# Altium schematic symbol library Jetson_Xavier_NX_Carrier_Board_v1.1.SCHLIB: 83 symbols
Pins are listed as number, name and electrical type; pins without a type are passive.

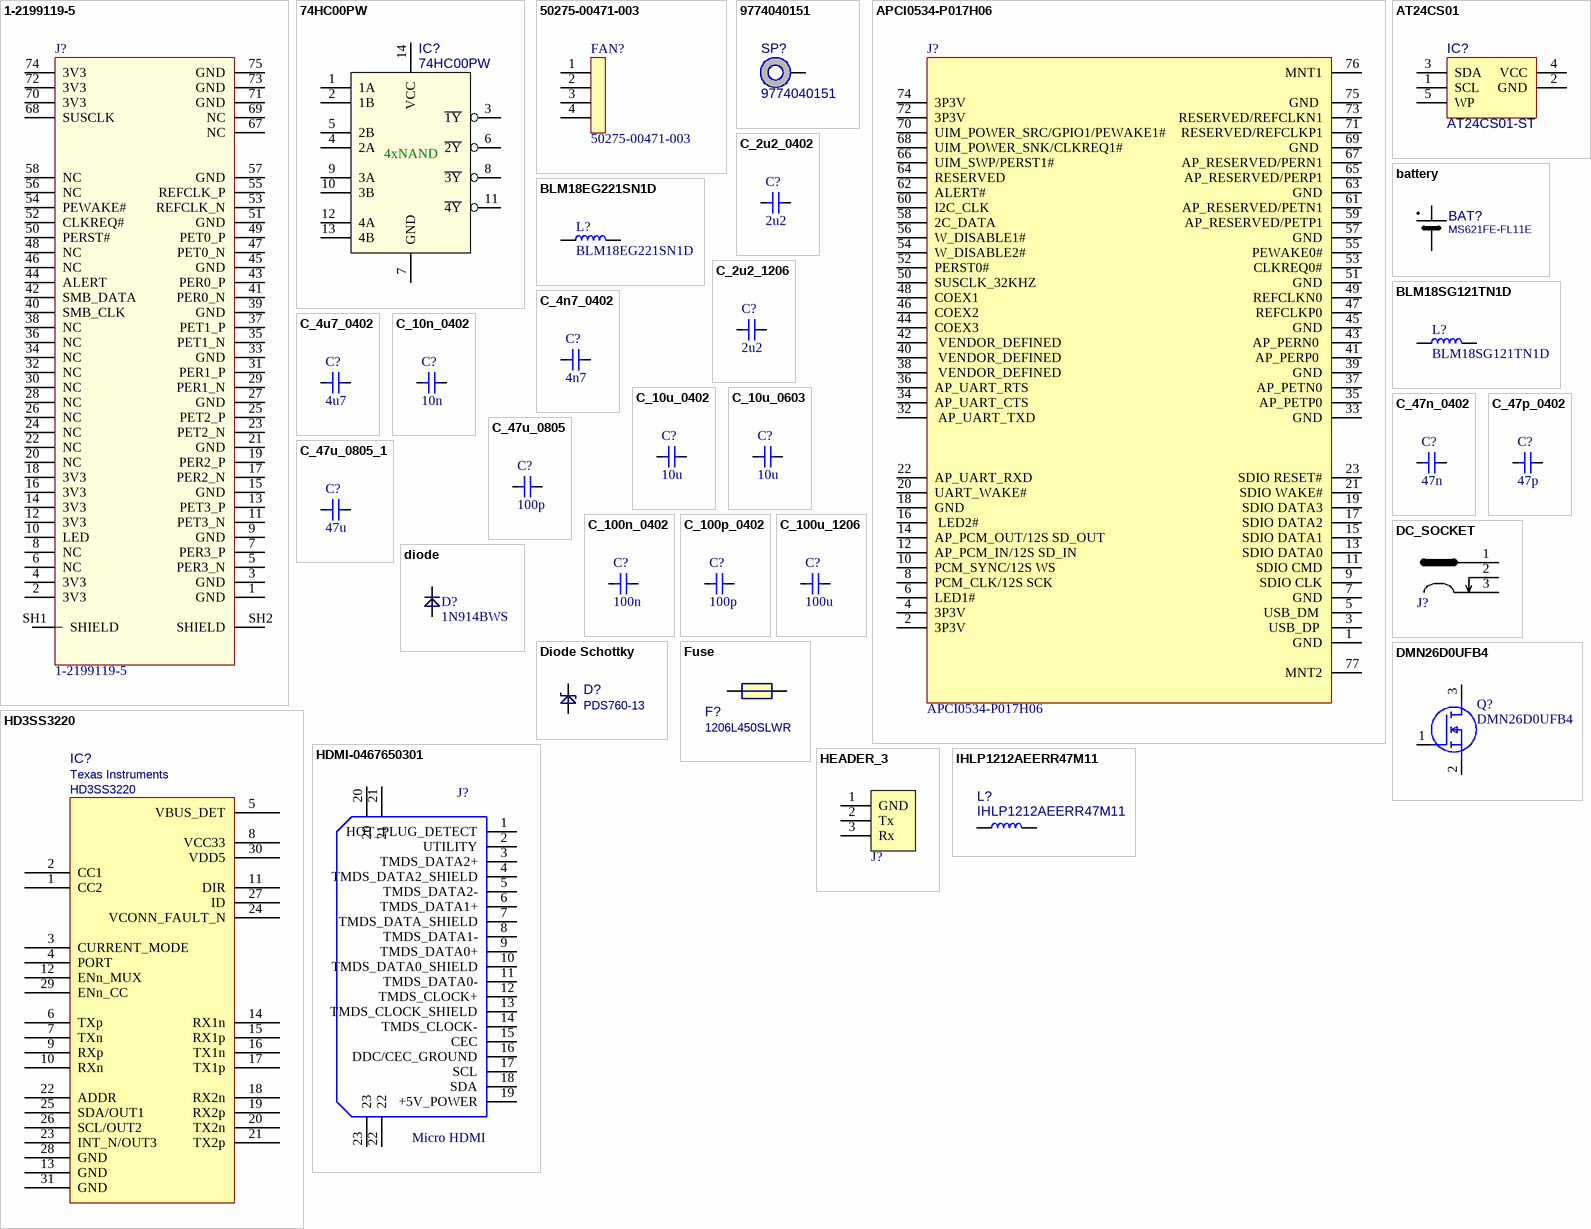
[diagram p0: symbols 1-2199119-5 to IHLP1212AEERR47M11]

## 1-2199119-5
designator J?
CONN FEMALE 67POS 0.020 GOLD; Manufacturer: TE; PartNumber: 1-2199119-5; Value: 1-2199119-5
footprint 1-2199119-5
pins: 1 GND, 2 3V3, 3 GND, 4 3V3, 5 PER3_N, 6 NC, 7 PER3_P, 8 NC, 9 GND, 10 LED, 11 PET3_N, 12 3V3, 13 PET3_P, 14 3V3, 15 GND, 16 3V3, 17 PER2_N, 18 3V3, 19 PER2_P, 20 NC, 21 GND, 22 NC, 23 PET2_N, 24 NC, 25 PET2_P, 26 NC, 27 GND, 28 NC, 29 PER1_N, 30 NC, 31 PER1_P, 32 NC, 33 GND, 34 NC, 35 PET1_N, 36 NC, 37 PET1_P, 38 NC, 39 GND, 40 SMB_CLK, 41 PER0_N, 42 SMB_DATA, 43 PER0_P, 44 ALERT, 45 GND, 46 NC, 47 PET0_N, 48 NC, 49 PET0_P, 50 PERST#, 51 GND, 52 CLKREQ#, 53 REFCLK_N, 54 PEWAKE#, 55 REFCLK_P, 56 NC, 57 GND, 58 NC, 67 NC, 68 SUSCLK, 69 NC, 70 3V3, 71 GND, 72 3V3, 73 GND, 74 3V3, 75 GND, SH1 SHIELD, SH2 SHIELD

## 74HC00PW
designator IC?
2 NAND Gate, 4 channel; Manufacturer: NEXPERIA; PartNumber: 74HC00PW; Value: 74HC00PW; PartSymbol: 74HC00PW
footprint TSSOP-14
pins: 1 1A, 2 1B, 3 ~{1Y}, 4 2A, 5 2B, 6 ~{2Y}, 7 GND, 8 ~{3Y}, 9 3A, 10 3B, 11 ~{4Y}, 12 4A, 13 4B, 14 VCC
text: 4xNAND

## 50275-00471-003
designator FAN?
footprint CON_MISC_004_TH_ST_M_P013_WTB
pins: 1, 2, 3, 4

## 9774040151
designator SP?
RND STANDOFF M2.5X0.45 STEEL 4MM; Manufacturer: WURTH ELEKTRONIK; PartNumber: 9774040151; Value: 9774040151; PartSymbol: 9774040151
footprint MEC_STANDOFF_PTH_620C380P
pins: 1

## APCI0534-P017H06
designator J?
part number: APCI0534-P017H06
footprint CON_MINIPEX_067_SMT_RA_M2_KEYE_C
pins: 1 GND, 2 3P3V, 3 USB_DP , 4 3P3V, 5 USB_DM , 6 LED1#, 7 GND, 8 PCM_CLK/12S SCK, 9  SDIO CLK, 10 PCM_SYNC/12S WS, 11 SDIO CMD, 12 AP_PCM_IN/12S SD_IN, 13 SDIO DATA0, 14 AP_PCM_OUT/12S SD_OUT, 15 SDIO DATA1, 16  LED2#, 17 SDIO DATA2, 18 GND , 19 SDIO DATA3, 20 UART_WAKE#, 21 SDIO WAKE#, 22 AP_UART_RXD, 23 SDIO RESET#, 32  AP_UART_TXD, 33 GND, 34 AP_UART_CTS, 35 AP_PETP0, 36 AP_UART_RTS, 37 AP_PETN0, 38  VENDOR_DEFINED, 39 GND, 40  VENDOR_DEFINED, 41 AP_PERP0 , 42  VENDOR_DEFINED, 43 AP_PERN0 , 44 COEX3, 45 GND, 46 COEX2, 47 REFCLKP0, 48 COEX1, 49 REFCLKN0, 50 SUSCLK_32KHZ, 51 GND, 52 PERST0#, 53 CLKREQ0#, 54 W_DISABLE2# , 55 PEWAKE0#, 56 W_DISABLE1#, 57 GND, 58 2C_DATA, 59 AP_RESERVED/PETP1, 60 I2C_CLK, 61 AP_RESERVED/PETN1, 62 ALERT#, 63 GND, 64 RESERVED, 65 AP_RESERVED/PERP1, 66 UIM_SWP/PERST1#, 67 AP_RESERVED/PERN1, 68 UIM_POWER_SNK/CLKREQ1#, 69 GND , 70 UIM_POWER_SRC/GPIO1/PEWAKE1#, 71 RESERVED/REFCLKP1, 72 3P3V, 73 RESERVED/REFCLKN1, 74 3P3V, 75 GND , 76 MNT1, 77 MNT2

## AT24CS01
designator IC?, comment AT24CS01-ST
Manufacturer: Atmel; PartNumber: AT24CS01-ST; PartSymbol: AT24CS01-ST; Value: AT24CS01-ST
footprint SOT23-5 (SOT23, 5-Leads, Body 2,90x2,70mm, Pitch 0,95mm, IPC Medium Density)
pins: 1 SCL, 2 GND, 3 SDA, 4 VCC, 5 WP

## battery
designator BAT?, comment MS621FE-FL11E
Rechargeable Battery, Coin Cell, Single Cell, 3 V, Lithium Manganese Dioxide, 5.5 mAh, Button Cell; Manufacturer: SEIKO INSTRUMENTS; PartNumber: MS621FE-FL11E; Value: MS621FE-FL11E; PartSymbol: MS621FE-FL11E; Class: Battery
footprint MS621FE-FL11E
pins: +, -

## BLM18EG221SN1D
designator L?
MURATA  BLM18EG221SN1D  FERRITE BEAD, 0.05OHM, 2A, 0603; PartNumber: BLM18EG221SN1D; Value: BLM18EG221SN1D; Manufacturer: MURATA; PartSymbol: BLM18EG221SN1D
footprint BEADC1608X65N
pins: 1, 2

## BLM18SG121TN1D
designator L?
FERRITE BEAD, 0.025OHM, 3A, 0603; Manufacturer: MURATA; PartNumber: BLM18SG121TN1D; Value: BLM18SG121TN1D; PartSymbol: BLM18SG121TN1D
footprint BEADC1608X65N
pins: 1, 2

## C_2u2_0402
designator C?, comment 2u2
MLCC SMT Capacitor 2.2uF 0402; PartNumber: C_2u2_0402; Manufacturer: TDK; PartSymbol: C1005X5R1A225K050BC; Value: 2u2
footprint C0402
pins: 1, 2
1 alternate drawing of the same symbol

## C_2u2_1206
designator C?, comment 2u2
MLCC SMT Capacitor 2.2uF 1206; PartNumber: C_2u2_1206; Manufacturer: KEMET; PartSymbol: C1206C225J5RACTU; Value: 2u2
footprint 1206
pins: 1, 2
1 alternate drawing of the same symbol

## C_4n7_0402
designator C?, comment 4n7
MLCC SMT Capacitor 4.7 nF 0402; PartNumber: C_4n7_0402; Manufacturer: TDK; PartSymbol: CGA2B3X7S2A472K050BB; Value: 4n7
footprint C0402
pins: 1, 2
1 alternate drawing of the same symbol

## C_4u7_0402
designator C?, comment 4u7
MLCC SMT Capacitor 4.7uF 0402; PartNumber: C_4u7_0402; Manufacturer: MURATA; PartSymbol: GRM155R60G475ME; Value: 4u7
footprint C0402
pins: 1, 2
1 alternate drawing of the same symbol

## C_10n_0402
designator C?, comment 10n
MLCC SMT Capacitor 10 nF 0402; PartNumber: C_10n_0402; Manufacturer: AVX; PartSymbol: 04025G103ZAT2A; Value: 10n
footprint C0402
pins: 1, 2
1 alternate drawing of the same symbol

## C_10u_0402
designator C?, comment 10u
MLCC SMT Capacitor 10uF 0402; PartNumber: C_10u_0402; Manufacturer: TDK; PartSymbol: C1005X5R0J106M050BC; Value: 10u
footprint C0402
pins: 1, 2
1 alternate drawing of the same symbol

## C_10u_0603
designator C?, comment 10u
MLCC SMT Capacitor 10uF 0603; PartNumber: C_10u_0603; Manufacturer: Walsin; PartSymbol: 0603X106M6R3CT; Value: 10u
footprint C0603 (Chip Inductor Ferrite Bead 0603)
pins: 1, 2
1 alternate drawing of the same symbol

## C_47n_0402
designator C?, comment 47n
MLCC SMT Capacitor 47nF 0402; PartNumber: C_47n_0402; Manufacturer: MULTICOMP; PartSymbol: MC0402X473K160CT; Value: 47n
footprint C0402
pins: 1, 2
1 alternate drawing of the same symbol

## C_47p_0402
designator C?, comment 47p
MLCC SMT Capacitor 47pF 0402; PartNumber: C_47p_0402; Manufacturer: KEMET; PartSymbol: C0402C470J5GACTU; Value: 47p
footprint C0402
pins: 1, 2
1 alternate drawing of the same symbol

## C_47u_0805
designator C?, comment 100p
MLCC SMT Capacitor 100pF 0805; PartNumber: C_100p_0805; PartSymbol: 08051A101JAT2A; Value: 100p
footprint 0805
pins: 1, 2
1 alternate drawing of the same symbol

## C_47u_0805_1
designator C?, comment 47u
MLCC SMT Capacitor 47uF 0805; PartNumber: C_47u_0805; Manufacturer: KEMET; PartSymbol: C0805C476M9PACTU; Value: 47u
footprint 0805
pins: 1, 2
1 alternate drawing of the same symbol

## C_100n_0402
designator C?, comment 100n
MLCC SMT Capacitor 100n 0402; PartNumber: C_100n_0402; Manufacturer: TDK; PartSymbol: C1005X5R0J104K050BA; Value: 100n
footprint C0402
pins: 1, 2
1 alternate drawing of the same symbol

## C_100p_0402
designator C?, comment 100p
MLCC SMT Capacitor 100p 0402; PartNumber: C_100p_0402; Manufacturer: AVX; PartSymbol: 04023A101JAT2A; Value: 100p
footprint C0402
pins: 1, 2
1 alternate drawing of the same symbol

## C_100u_1206
designator C?, comment 100u
MLCC SMT Capacitor 100uF 1206; PartNumber: C_100u_1206; Manufacturer: Taiyo Yuden; PartSymbol: JMK316BJ107ML-T; Value: 100u
footprint 1206
pins: 1, 2
1 alternate drawing of the same symbol

## DC_SOCKET
designator J?, comment DC-005-5A-2.5  (value not drawn)
DC Power Connector, Jack, 4 A, 1.95 mm, PCB Mount, Through Hole; Manufacturer: XKB Connectivity; PartNumber: DC-005-5A-2.5; PartSymbol: DC-005-5A-2.5; Value: DC-005-5A-2.5
footprint DC_SOCKET
pins: 1, 2, 3

## diode
designator D?, comment 1N914BWS
Diode small signal; Manufacturer: ON SEMICONDUCTOR; Value: 1N914BWS; PartNumber: 1N914BWS; PartSymbol: 1N914BWS
footprint SOD-323
pins: A, C

## Diode Schottky
designator D?, comment PDS760-13
DIODE SCHOTTKY 60V 7A POWERDI5; Manufacturer: DIODES INC.; PartNumber: PDS760-13; Value: PDS760-13; PartSymbol: PDS760-13
footprint PowerDI
pins: A, C

## DMN26D0UFB4
designator Q?
MOSFET (N-Channel); Manufacturer_Name: Diodes Inc.; Manufacturer_Part_Number: DMN26D0UFB4-7; Datasheet Link: https://componentsearchengine.com/Datasheets/1/DMN26D0UFB4-7.pdf; Height: 0.4mm; Arrow Part Number: DMN26D0UFB4-7; Arrow Price/Stock: https://www.arrow.com/en/products/dmn26d0ufb4-7/diodes-incorporated; Mouser Part Number: 621-DMN26D0UFB4-7; Mouser Price/Stock: https://www.mouser.co.uk/ProductDetail/Diodes-Incorporated/DMN26D0UFB4-7?qs=GWgl%252BsiMZr%252B4pznsTuF3iQ%3D%3D
footprint DMN26D0UFB47
pins: 1 G, 2 S, 3 D

## Fuse
designator F?, comment PartSymbol: 1206L450SLWR  (hidden comment: Value)
PTC RESET 6V LO RHO 1206 4.50A; PartNumber: LITTELFUSE_1206L450SLWR; Manufacturer: LITTELFUSE; Value: 1206L450SLWR
footprint Fuse-1206
pins: 1, 2

## HD3SS3220
designator IC?  Manufacturer: Texas Instruments
IC DRP PORT CTLR USB-C 30WQFN; PartSymbol: HD3SS3220RNHT; PartNumber: HD3SS3220; Value: HD3SS3220
footprint RNH0030A
pins: 1 CC2, 2 CC1, 3 CURRENT_MODE, 4 PORT, 5 VBUS_DET, 6 TXp, 7 TXn, 8 VCC33, 9 RXp, 10 RXn, 11 DIR, 12 ENn_MUX, 13 GND, 14 RX1n, 15 RX1p, 16 TX1n, 17 TX1p, 18 RX2n, 19 RX2p, 20 TX2n, 21 TX2p, 22 ADDR, 23 INT_N/OUT3, 24 VCONN_FAULT_N, 25 SDA/OUT1, 26 SCL/OUT2, 27 ID, 28 GND, 29 ENn_CC, 30 VDD5, 31 GND

## HDMI-0467650301
designator J?, comment Micro HDMI
footprint HDMI-0467650301
pins: 1 HOT_PLUG_DETECT, 2 UTILITY, 3 TMDS_DATA2+, 4 TMDS_DATA2_SHIELD, 5 TMDS_DATA2-, 6 TMDS_DATA1+, 7 TMDS_DATA_SHIELD, 8 TMDS_DATA1-, 9 TMDS_DATA0+, 10 TMDS_DATA0_SHIELD, 11 TMDS_DATA0-, 12 TMDS_CLOCK+, 13 TMDS_CLOCK_SHIELD, 14 TMDS_CLOCK-, 15 CEC, 16 DDC/CEC_GROUND, 17 SCL, 18 SDA, 19 +5V_POWER, 20, 21, 22, 23

## HEADER_3
designator J?  (value not drawn)
footprint 826936-3 (Connector; Header; 3 Position)
pins: 1 GND, 2 Tx, 3 Rx

## IHLP1212AEERR47M11
designator L?
FIXED IND 470NH 6.7A 15 MOHM SMD; Manufacturer: VISHAY; Class: Inductance; PartNumber: IHLP1212AEERR47M11; Value: IHLP1212AEERR47M11; PartSymbol: IHLP1212AEERR47M11; Inductance: 470nH; RatedCurrent: 6.7A
footprint IHLP-1212AE
pins: 1, 2

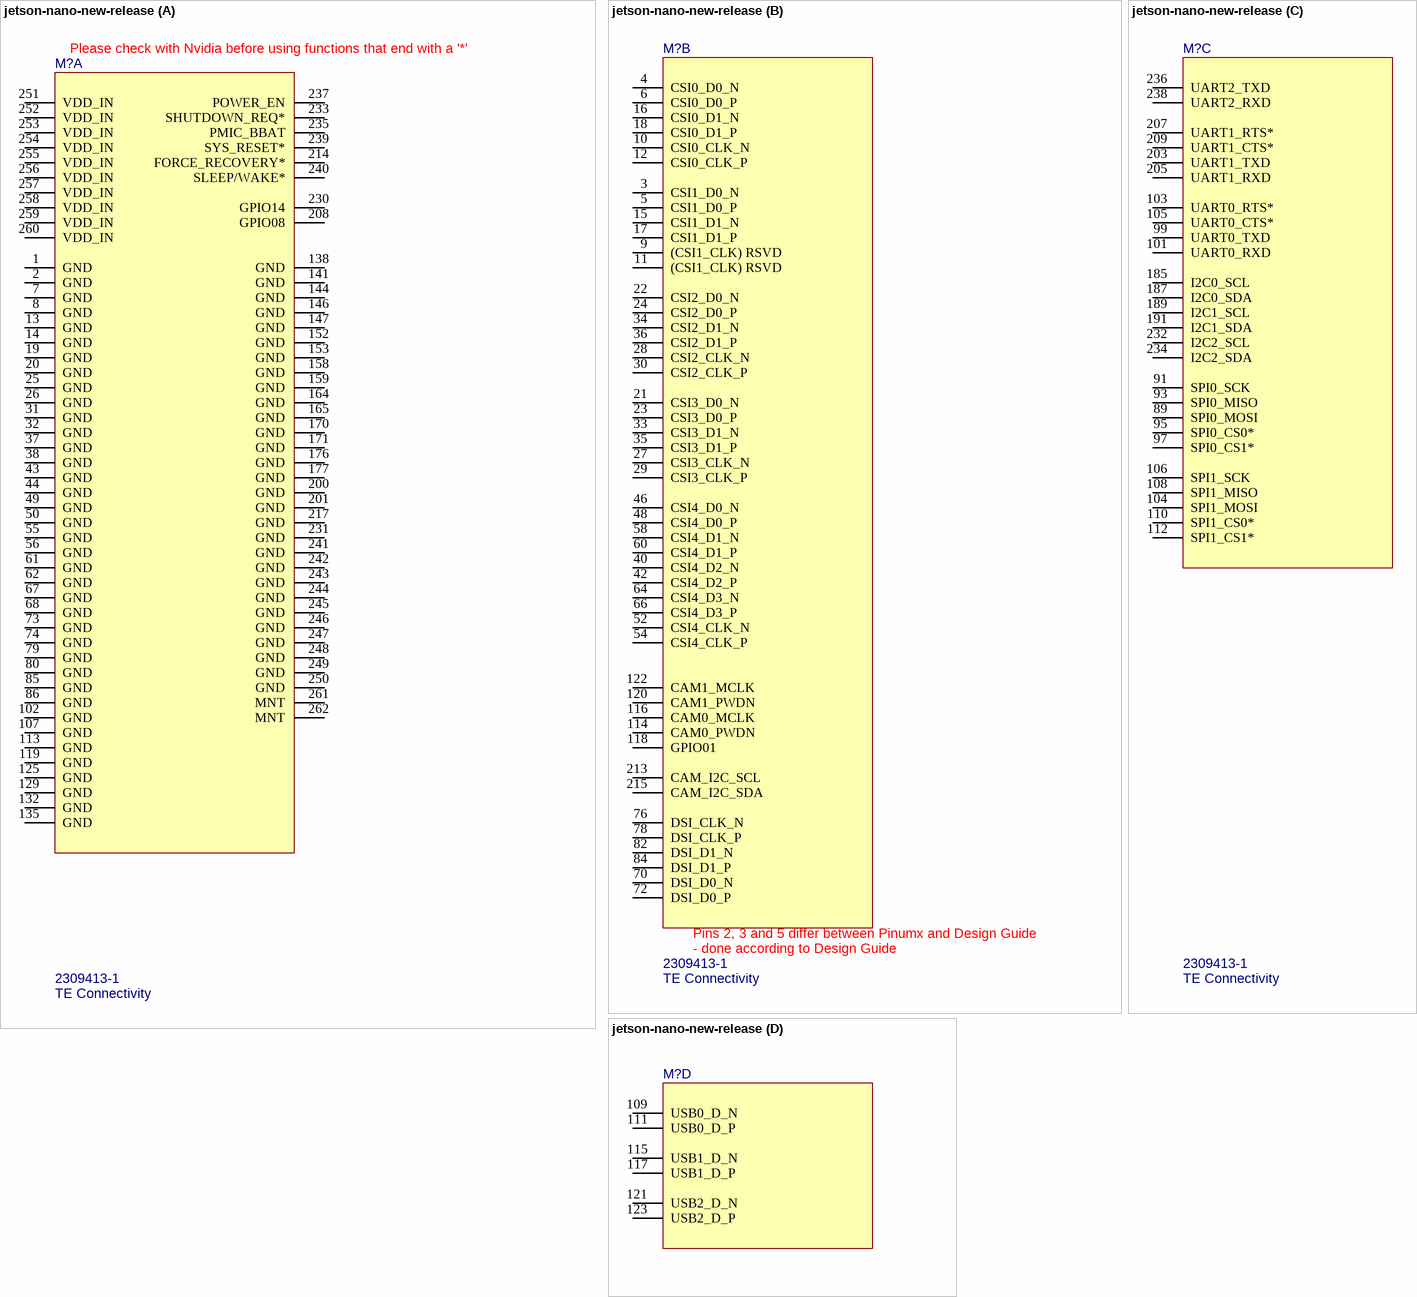
[diagram p1: symbol jetson-nano-new-release]

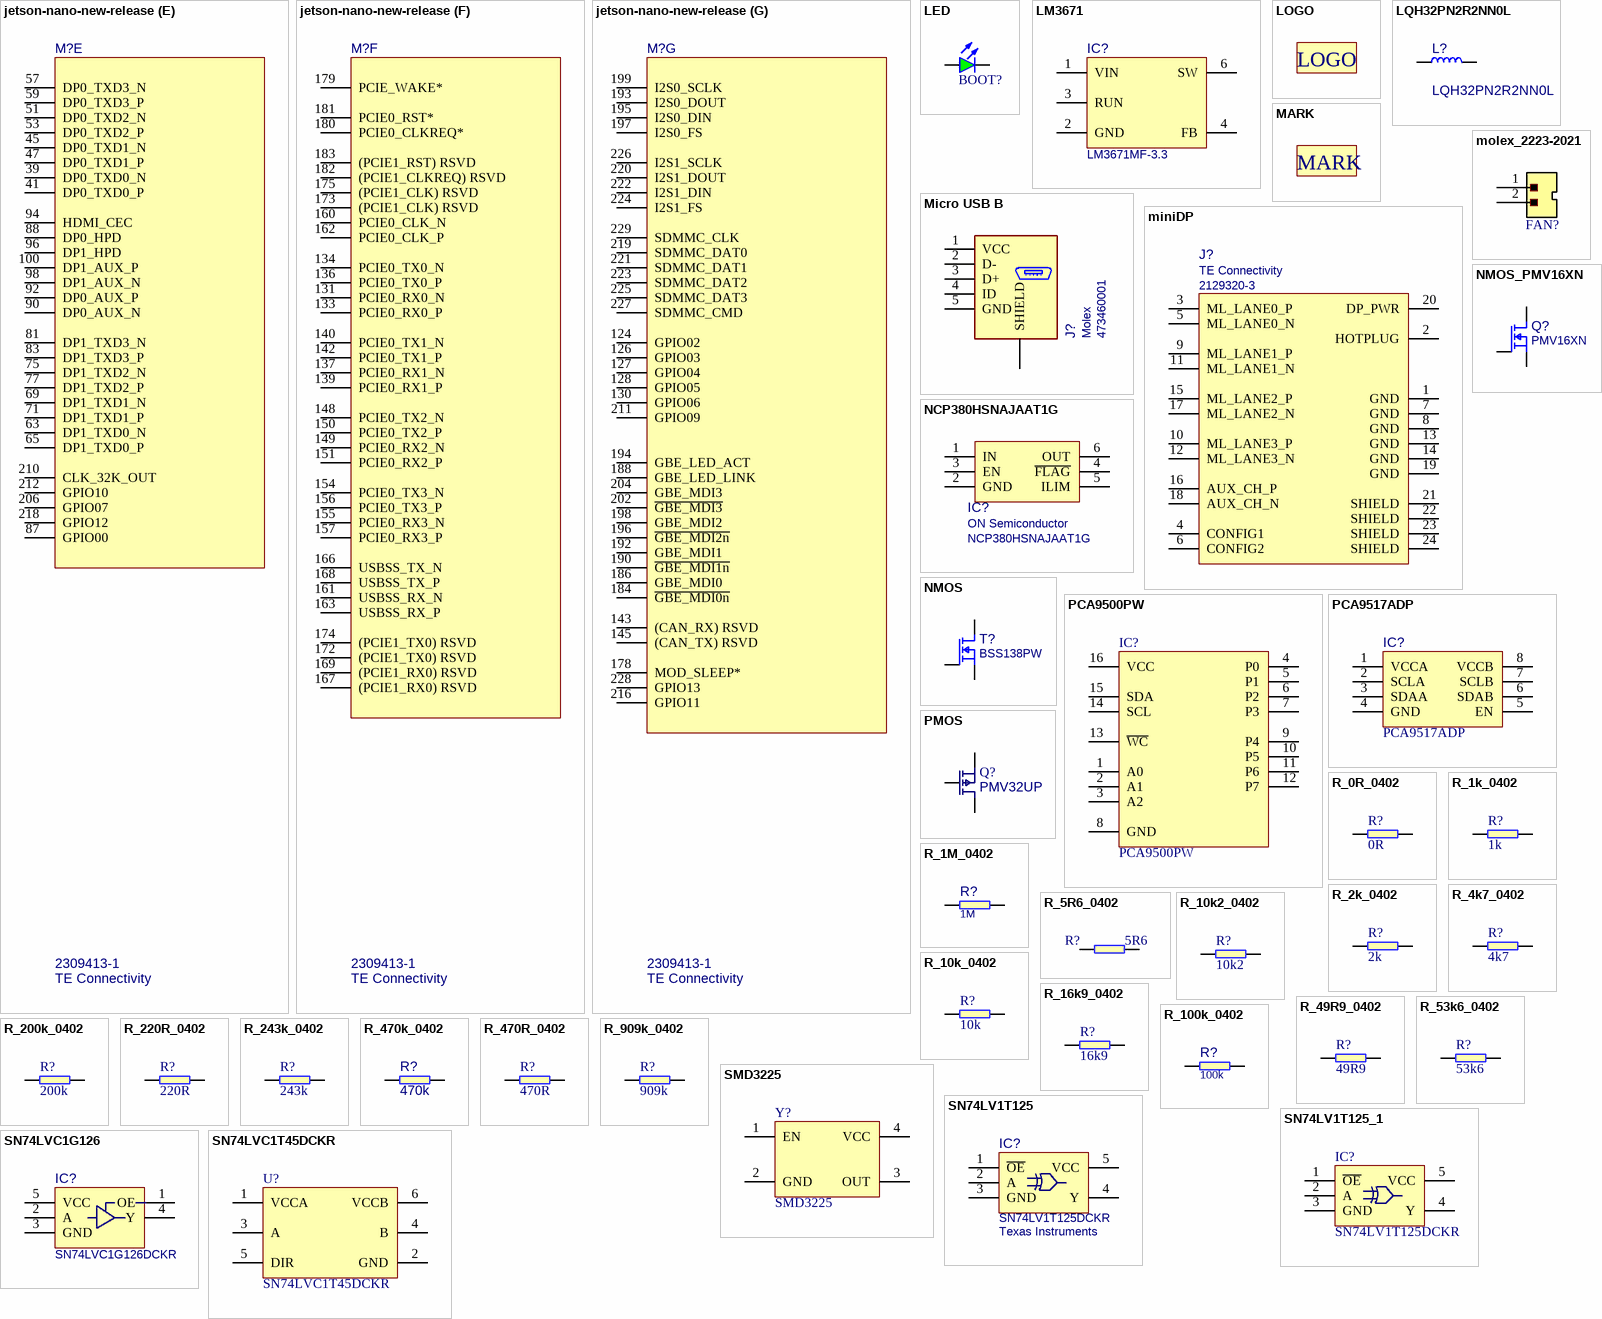
[diagram p2: symbols jetson-nano-new-release to SN74LVC1T45DCKR]

## jetson-nano-new-release
designator M?, comment Manufacturer: TE Connectivity  (hidden comment: 2309413-1)
PartNumber: 2309413-1; Value: 2309413-1; PartSymbol: 2309413-1
footprint jetson-nano-connector
part A pins: 1 GND, 2 GND, 7 GND, 8 GND, 13 GND, 14 GND, 19 GND, 20 GND, 25 GND, 26 GND, 31 GND, 32 GND, 37 GND, 38 GND, 43 GND, 44 GND, 49 GND, 50 GND, 55 GND, 56 GND, 61 GND, 62 GND, 67 GND, 68 GND, 73 GND, 74 GND, 79 GND, 80 GND, 85 GND, 86 GND, 102 GND, 107 GND, 113 GND, 119 GND, 125 GND, 129 GND, 132 GND, 135 GND, 138 GND, 141 GND, 144 GND, 146 GND, 147 GND, 152 GND, 153 GND, 158 GND, 159 GND, 164 GND, 165 GND, 170 GND, 171 GND, 176 GND, 177 GND, 200 GND, 201 GND, 208 GPIO08, 214 FORCE_RECOVERY*, 217 GND, 230 GPIO14, 231 GND, 233 SHUTDOWN_REQ*, 235 PMIC_BBAT, 237 POWER_EN, 239 SYS_RESET*, 240 SLEEP/WAKE*, 241 GND, 242 GND, 243 GND, 244 GND, 245 GND, 246 GND, 247 GND, 248 GND, 249 GND, 250 GND, 251 VDD_IN, 252 VDD_IN, 253 VDD_IN, 254 VDD_IN, 255 VDD_IN, 256 VDD_IN, 257 VDD_IN, 258 VDD_IN, 259 VDD_IN, 260 VDD_IN, 261 MNT, 262 MNT
part B pins: 3 CSI1_D0_N, 4 CSI0_D0_N, 5 CSI1_D0_P, 6 CSI0_D0_P, 9 (CSI1_CLK) RSVD, 10 CSI0_CLK_N, 11 (CSI1_CLK) RSVD, 12 CSI0_CLK_P, 15 CSI1_D1_N, 16 CSI0_D1_N, 17 CSI1_D1_P, 18 CSI0_D1_P, 21 CSI3_D0_N, 22 CSI2_D0_N, 23 CSI3_D0_P, 24 CSI2_D0_P, 27 CSI3_CLK_N, 28 CSI2_CLK_N, 29 CSI3_CLK_P, 30 CSI2_CLK_P, 33 CSI3_D1_N, 34 CSI2_D1_N, 35 CSI3_D1_P, 36 CSI2_D1_P, 40 CSI4_D2_N, 42 CSI4_D2_P, 46 CSI4_D0_N, 48 CSI4_D0_P, 52 CSI4_CLK_N, 54 CSI4_CLK_P, 58 CSI4_D1_N, 60 CSI4_D1_P, 64 CSI4_D3_N, 66 CSI4_D3_P, 70 DSI_D0_N, 72 DSI_D0_P, 76 DSI_CLK_N, 78 DSI_CLK_P, 82 DSI_D1_N, 84 DSI_D1_P, 114 CAM0_PWDN, 116 CAM0_MCLK, 118 GPIO01, 120 CAM1_PWDN, 122 CAM1_MCLK, 213 CAM_I2C_SCL, 215 CAM_I2C_SDA
part C pins: 89 SPI0_MOSI, 91 SPI0_SCK, 93 SPI0_MISO, 95 SPI0_CS0*, 97 SPI0_CS1*, 99 UART0_TXD, 101 UART0_RXD, 103 UART0_RTS*, 104 SPI1_MOSI, 105 UART0_CTS*, 106 SPI1_SCK, 108 SPI1_MISO, 110 SPI1_CS0*, 112 SPI1_CS1*, 185 I2C0_SCL, 187 I2C0_SDA, 189 I2C1_SCL, 191 I2C1_SDA, 203 UART1_TXD, 205 UART1_RXD, 207 UART1_RTS*, 209 UART1_CTS*, 232 I2C2_SCL, 234 I2C2_SDA, 236 UART2_TXD, 238 UART2_RXD
part D pins: 109 USB0_D_N, 111 USB0_D_P, 115 USB1_D_N, 117 USB1_D_P, 121 USB2_D_N, 123 USB2_D_P
part E pins: 39 DP0_TXD0_N, 41 DP0_TXD0_P, 45 DP0_TXD1_N, 47 DP0_TXD1_P, 51 DP0_TXD2_N, 53 DP0_TXD2_P, 57 DP0_TXD3_N, 59 DP0_TXD3_P, 63 DP1_TXD0_N, 65 DP1_TXD0_P, 69 DP1_TXD1_N, 71 DP1_TXD1_P, 75 DP1_TXD2_N, 77 DP1_TXD2_P, 81 DP1_TXD3_N, 83 DP1_TXD3_P, 87 GPIO00, 88 DP0_HPD, 90 DP0_AUX_N, 92 DP0_AUX_P, 94 HDMI_CEC, 96 DP1_HPD, 98 DP1_AUX_N, 100 DP1_AUX_P, 206 GPIO07, 210 CLK_32K_OUT, 212 GPIO10, 218 GPIO12
part F pins: 131 PCIE0_RX0_N, 133 PCIE0_RX0_P, 134 PCIE0_TX0_N, 136 PCIE0_TX0_P, 137 PCIE0_RX1_N, 139 PCIE0_RX1_P, 140 PCIE0_TX1_N, 142 PCIE0_TX1_P, 148 PCIE0_TX2_N, 149 PCIE0_RX2_N, 150 PCIE0_TX2_P, 151 PCIE0_RX2_P, 154 PCIE0_TX3_N, 155 PCIE0_RX3_N, 156 PCIE0_TX3_P, 157 PCIE0_RX3_P, 160 PCIE0_CLK_N, 161 USBSS_RX_N, 162 PCIE0_CLK_P, 163 USBSS_RX_P, 166 USBSS_TX_N, 167 (PCIE1_RX0) RSVD, 168 USBSS_TX_P, 169 (PCIE1_RX0) RSVD, 172 (PCIE1_TX0) RSVD, 173 (PCIE1_CLK) RSVD, 174 (PCIE1_TX0) RSVD, 175 (PCIE1_CLK) RSVD, 179 PCIE_WAKE*, 180 PCIE0_CLKREQ*, 181 PCIE0_RST*, 182 (PCIE1_CLKREQ) RSVD, 183 (PCIE1_RST) RSVD
part G pins: 124 GPIO02, 126 GPIO03, 127 GPIO04, 128 GPIO05, 130 GPIO06, 143 (CAN_RX) RSVD, 145 (CAN_TX) RSVD, 178 MOD_SLEEP*, 184 ~{GBE_MDI0n}, 186 GBE_MDI0, 188 GBE_LED_LINK, 190 ~{GBE_MDI1n}, 192 GBE_MDI1, 193 I2S0_DOUT, 194 GBE_LED_ACT, 195 I2S0_DIN, 196 ~{GBE_MDI2n}, 197 I2S0_FS, 198 GBE_MDI2, 199 I2S0_SCLK, 202 ~{GBE_MDI3}, 204 GBE_MDI3, 211 GPIO09, 216 GPIO11, 219 SDMMC_DAT0, 220 I2S1_DOUT, 221 SDMMC_DAT1, 222 I2S1_DIN, 223 SDMMC_DAT2, 224 I2S1_FS, 225 SDMMC_DAT3, 226 I2S1_SCLK, 227 SDMMC_CMD, 228 GPIO13, 229 SDMMC_CLK
part A text: Please check with Nvidia before using functions that end with a '*'
part B text: Pins 2, 3 and 5 differ between Pinumx and Design Guide; - done according to Design Guide

## LED
designator BOOT?, comment SML-310MTT86  (value not drawn)
LED Green 0603 case; PartNumber: LED_G; Manufacturer: ROHM Semicon; Value: SML-310MTT86; PartSymbol: SML-310MTT86
footprint LED0603
pins: A, K

## LM3671
designator IC?, comment LM3671MF-3.3
DC/DC Buck Converter; Manufacturer: TEXAS INSTRUMENTS; PartSymbol: LM3671MF-3.3/NOPB; Value: LM3671MF-3.3; PartNumber: LM3671MF-3.3
footprint SOT23-5N
pins: 1 VIN, 2 GND, 3 RUN, 4 FB, 6 SW

## LOGO
designator LOGO?  (value not drawn)
footprint LOGO_2

## LQH32PN2R2NN0L
designator L?
INDUCTOR, 2.2 ?H, ? 30%, 1212, 90 MHz, 0.073 ohm; Manufacturer: MURATA; Inductance: 2.2uH; PartNumber: LQH32PN2R2NN0L; Value: LQH32PN2R2NN0L; PartSymbol: LQH32PN2R2NN0L
footprint LQH32PN2R2NN0L
pins: 1, 2

## MARK
designator MARK?  (value not drawn)
footprint MARK

## Micro USB B
designator J?, comment Manufacturer: Molex  PartSymbol: 473460001  (hidden comment: Molex 47346-0001)
USB - micro B Receptacle Connector 5 Position Surface Mount, Right Angle, Horizontal; PartNumber: CON-Molex-47346-0001; Value: Molex 47346-0001
footprint CON-Molex-047346-0001
pins: 1 VCC (power), 2 D-, 3 D+, 4 ID, 5 GND (power), S SHIELD

## miniDP
designator J?, comment 2129320-3  Manufacturer: TE Connectivity
Mini Displayport Reverse Offset; PartNumber: 2129320-3; Value: 2129320-3; PartSymbol: 2129320-3
footprint 2129320-3
pins: 1 GND, 2 HOTPLUG, 3 ML_LANE0_P, 4 CONFIG1, 5 ML_LANE0_N, 6 CONFIG2, 7 GND, 8 GND, 9 ML_LANE1_P, 10 ML_LANE3_P, 11 ML_LANE1_N, 12 ML_LANE3_N, 13 GND, 14 GND, 15 ML_LANE2_P, 16 AUX_CH_P, 17 ML_LANE2_N, 18 AUX_CH_N, 19 GND, 20 DP_PWR, 21 SHIELD, 22 SHIELD, 23 SHIELD, 24 SHIELD

## molex_2223-2021
designator FAN?, comment MX-22-23-2021  (value not drawn)
Pinhead connector with key; Manufacturer: Molex; PartNumber: molex_2223-2021; PartSymbol: 022232021 A-6373-02A222; Value: MX-22-23-2021
footprint molex_2223-2021
pins: 1, 2

## NCP380HSNAJAAT1G
designator IC?  Manufacturer: ON Semiconductor
POWER LOAD SWITCH, HIGH SIDE; Value: NCP380HSNAJAAT1G; PartNumber: NCP380HSNAJAAT1G; PartSymbol: NCP380HSNAJAAT1G
footprint TSOP-6
pins: 1 IN, 2 GND, 3 EN, 4 ~{FLAG}, 5 ILIM, 6 OUT

## NMOS
designator T?, comment BSS138PW
MOSFET, N CH, 60V, 0.2A; Manufacturer: NXP; Value: BSS138PW; PartNumber: BSS138PW; PartSymbol: BSS138PW
footprint SOT-23 (SOT23, 3-Leads, Body 2.90x2.45mm, Pitch 0.95mm, IPC Medium Density)
footprint SC70-3
pins: 1 G, 2 S, 3 D

## NMOS_PMV16XN
designator Q?, comment PMV16XN
MOSFET, N CH; Manufacturer: NXP; Value: PMV16XN; PartNumber: PMV16XN; PartSymbol: PMV16XN
footprint SOT-23 (SOT23, 3-Leads, Body 2.90x2.45mm, Pitch 0.95mm, IPC Medium Density)
footprint SOT-23 (SOT23, 3-Leads, Body 2.90x2.45mm, Pitch 0.95mm, IPC Medium Density)
footprint SOT-23s (SOT23, 3-Leads, Body 2.90x2.45mm, Pitch 0.95mm, IPC Medium Density)
pins: 1 G, 2 S, 3 D

## PCA9500PW
designator IC?
Remote 8bit I2C SMBus I/O expander w/ 2kbit EEPROM memory; Manufacturer: NXP Semicondutors; PartNumber: PCA9500PW; Value: PCA9500PW; PartSymbol: PCA9500PW
footprint TSSOP-16
pins: 1 A0, 2 A1, 3 A2, 4 P0, 5 P1, 6 P2, 7 P3, 8 GND, 9 P4, 10 P5, 11 P6, 12 P7, 13 ~{WC}, 14 SCL, 15 SDA, 16 VCC

## PCA9517ADP
designator IC?
IC REDRIVER I2C 1CH 8TSSOP; Manufacturer: NXP; Value: PCA9517ADP; PartNumber: PCA9517ADP; PartSymbol: PCA9517ADP
footprint MSOP-8
pins: 1 VCCA, 2 SCLA, 3 SDAA, 4 GND, 5 EN, 6 SDAB, 7 SCLB, 8 VCCB

## PMOS
designator Q?, comment PMV32UP
P CH, 20V, 4A; Manufacturer: NXP; PartNumber: PMV32UP; Value: PMV32UP; PartSymbol: PMV32UP
footprint SOT-23 (SOT23, 3-Leads, Body 2.90x2.45mm, Pitch 0.95mm, IPC Medium Density)
footprint SOT-23s (SOT23, 3-Leads, Body 2.90x2.45mm, Pitch 0.95mm, IPC Medium Density)
pins: 1 G, 2 S, 3 D

## R_0R_0402
designator R?, comment 0R
RES, 0R, 0402; PartNumber: R_0R_0402; Manufacturer: Panasonic; PartSymbol: ERJ2GE0R00X; Value: 0R
footprint R0402
pins: 1, 2

## R_1k_0402
designator R?, comment 1k
RES, 1k, 0402; PartNumber: R_1k_0402; Manufacturer: BOURNS; PartSymbol: CR0402-FX-1001GLF; Value: 1k
footprint R0402
pins: 1, 2

## R_1M_0402
designator R?, comment 1M
SMT Resistor 1M 0402; PartNumber: R_1M_0402; Manufacturer: VISHAY; PartSymbol: CRCW04021M00FKED; Tolerance: 1%; Value: 1M
footprint R0402
pins: 1, 2

## R_2k_0402
designator R?, comment 2k
RES, 2k, 0402; PartNumber: R_2k_0402; Manufacturer: VISHAY; PartSymbol: CRCW04022K00FKED; Value: 2k
footprint R0402
pins: 1, 2

## R_4k7_0402
designator R?, comment 4k7
RES, 4k7, 0402; PartNumber: R_4k7_0402; Manufacturer: Panasonic; PartSymbol: ERJ2GEJ472X; Value: 4k7
footprint R0402
pins: 1, 2

## R_5R6_0402
designator R?, comment 5R6
RES, 5R6, 0402; PartNumber: R_5R6_0402; Manufacturer: Panasonic; PartSymbol: ERJ2GEJ5R6X; Value: 5R6
footprint R0402
pins: 1, 2

## R_10k2_0402
designator R?, comment 10k2
RES, 10k2, 0402, 0.1%; PartNumber: R_10k2_0402_0.1%; Manufacturer: TE CONECTIVITY; PartSymbol: CPF0402B10K2E1; Tolerance: 0.1%; Value: 10k2
footprint R0402
pins: 1, 2

## R_10k_0402
designator R?, comment 10k
RES, 10k, 0402; PartNumber: R_10k_0402; Manufacturer: MULTICOMP; PartSymbol: MCMR04X1002FTL; Value: 10k
footprint R0402
pins: 1, 2

## R_16k9_0402
designator R?, comment 16k9
RES, 16k9, 0402; PartNumber: R_16k9_0402; Manufacturer: Panasonic; PartSymbol: ERA2AEB1692X; Value: 16k9
footprint R0402
pins: 1, 2

## R_49R9_0402
designator R?, comment 49R9
RES, 49R9, 0402; PartNumber: R_49R9_0402; Manufacturer: VISHAY; PartSymbol: CRCW040249R9FKED; Value: 49R9
footprint R0402
pins: 1, 2

## R_53k6_0402
designator R?, comment 53k6
RES, 53k6, 0402; PartNumber: R_53k6_0402; Manufacturer: TE CONECTIVITY; PartSymbol: CPF0402B53K6E1; Value: 53k6
footprint R0402
pins: 1, 2

## R_100k_0402
designator R?, comment 100k
SMT Resistor 100k 0402; PartNumber: R_100k_0402; Manufacturer: VISHAY; PartSymbol: CRCW0402100KFKEDHP; Tolerance: 1%; Value: 100k
footprint R0402
pins: 1, 2

## R_200k_0402
designator R?, comment 200k
RES, 200k, 0402; PartNumber: R_200k_0402; Manufacturer: YAGEO; PartSymbol: RC0402FR-07200KL; Value: 200k
footprint R0402
pins: 1, 2

## R_220R_0402
designator R?, comment 220R
RES, 220R, 0402; PartNumber: R_220R_0402; Manufacturer: TE CONECTIVITY; PartSymbol: CRG0402J220R; Value: 220R
footprint R0402
pins: 1, 2

## R_243k_0402
designator R?, comment 243k
RES, 243k, 0402; PartNumber: R_243k_0402; Manufacturer: MULTICOMP; PartSymbol: MCMR04X2433FTL; Value: 243k
footprint R0402
pins: 1, 2

## R_470k_0402
designator R?, comment 470k
SMT Resistor 470k 0402; PartNumber: R_470k_0402; Manufacturer: VISHAY; PartSymbol: CRCW0402470KFKED; Value: 470k
footprint R0402
pins: 1, 2

## R_470R_0402
designator R?, comment 470R
RES, 470R, 0402; PartNumber: R_470R_0402; Manufacturer: VISHAY; PartSymbol: CRCW0402470RFKED.; Value: 470R
footprint R0402
pins: 1, 2

## R_909k_0402
designator R?, comment 909k
RES, 909k, 0402; PartNumber: R_909k_0402; Manufacturer: Panasonic; PartSymbol: ERJ2RKF9093X; Value: 909k
footprint R0402
pins: 1, 2

## SMD3225
designator Y?
footprint XTAL_SMD_4_032X025_D
pins: 1 EN, 2 GND, 3 OUT, 4 VCC

## SN74LV1T125
designator IC?, comment SN74LV1T125DCKR  Manufacturer: Texas Instruments
Buffer, 74LV1T125, 1.6 V to 5.5 V, SOT-23-5; PartNumber: SN74LV1T125DCKR; Value: SN74LV1T125DCKR; PartSymbol: SN74LV1T125DCKR
footprint SC70-5
pins: 1 ~{OE}, 2 A, 3 GND, 4 Y, 5 VCC

## SN74LV1T125_1
designator IC?, comment SN74LV1T125DCKR
Buffer, 74LV1T125, 1.6 V to 5.5 V, SOT-23-5; Manufacturer: Texas Instruments; PartNumber: SN74LV1T125DCKR; Value: SN74LV1T125DCKR; PartSymbol: SN74LV1T125DCKR
footprint SC70-5
pins: 1 ~{OE}, 2 A, 3 GND, 4 Y, 5 VCC

## SN74LVC1G126
designator IC?, comment SN74LVC1G126DCKR
Buffer, tri-state; Manufacturer: Texas Instruments; PartNumber: SN74LVC1G126DCKR; Value: SN74LVC1G126DCKR; PartSymbol: SN74LVC1G126DCKR
footprint R-PDSO-G5
pins: 1 OE, 2 A, 3 GND, 4 Y, 5 VCC

## SN74LVC1T45DCKR
designator U?
footprint SC70_6
pins: 1 VCCA, 2 GND, 3 A, 4 B, 5 DIR, 6 VCCB

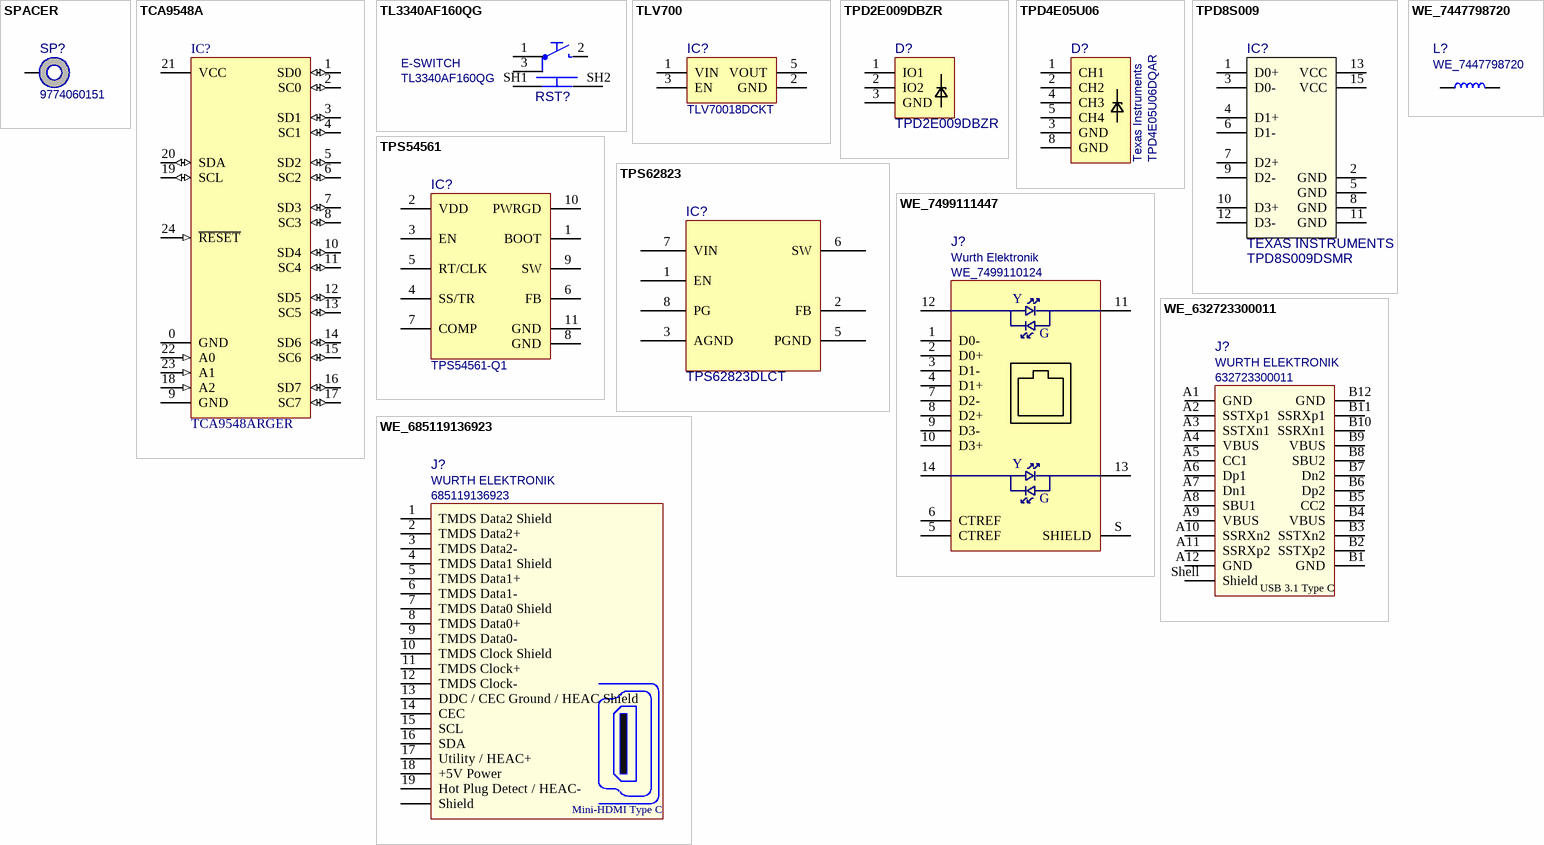
[diagram p3: symbols SPACER to WE_685119136923]

## SPACER
designator SP?, comment 9774060151
M2.5-6mm; PartNumber: M2.5x6; Manufacturer: WURTH ELEKTRONIK; Value: 9774060151; PartSymbol: 9774060151
footprint M2.5-6mm
pins: 1

## TCA9548A
designator IC?, comment TCA9548ARGER
TCA9548ARGER  I2C SWITCH W/ RESET, 8-CH, VQFN-24; Manufacturer: TEXAS INSTRUMENTS; Value: TCA9548ARGER; PartNumber: TCA9548ARGER; PartSymbol: TCA9548ARGER
footprint VQFN-24
pins: 0 GND (power), 1 SD0 (io), 2 SC0 (io), 3 SD1 (io), 4 SC1 (io), 5 SD2 (io), 6 SC2 (io), 7 SD3 (io), 8 SC3 (io), 9 GND (power), 10 SD4 (io), 11 SC4 (io), 12 SD5 (io), 13 SC5 (io), 14 SD6 (io), 15 SC6 (io), 16 SD7 (io), 17 SC7 (io), 18 A2 (in), 19 SCL (io), 20 SDA (io), 21 VCC (power), 22 A0 (in), 23 A1 (in), 24 ~{RESET} (in)

## TL3340AF160QG
designator RST?  Manufacturer: E-SWITCH  (hidden comment: TL3340AF160QG)
E-SWITCH  TL3340AF160QG  SWITCH, TACTILE SPST 50mA, SMD GULL WING; Value: TL3340AF160QG; PartNumber: TL3340AF160QG; PartSymbol: TL3340AF160QG
footprint TL3340AF160QG
pins: 1, 2, 3, SH1, SH2

## TLV700
designator IC?, comment TLV70018DCKT
Voltage Regulator, 2V to 5.5V, 175mV Dropout, 1.8Vout, 200mAout; Manufacturer: TEXAS INSTRUMENTS; Value: TLV70018DCKT; PartNumber: TLV70018DCKT; PartSymbol: TLV70018DCKT
footprint SC70-5
pins: 1 VIN, 2 GND, 3 EN, 5 VOUT

## TPD2E009DBZR
designator D?
DIODE, SCHOTTKY, 30V, 200MA, SOT-23; Manufacturer: NXP; PartNumber: TPD2E009DBZR; Value: TPD2E009DBZR; MPN: TPD2E009DBZR
footprint SOT-23
footprint SOT-23s (SOT23, 3-Leads, Body 2.90x2.45mm, Pitch 0.95mm, IPC Medium Density)
pins: 1 IO1, 2 IO2, 3 GND

## TPD4E05U06
designator D?  Manufacturer: Texas Instruments  PartSymbol: TPD4E05U06DQAR  (hidden comment: TPD4E05U06)
ESD Suppressors 4-CH; PartNumber: TPD4E05U06_PASS; Value: TPD4E05U06
footprint TPD4E05U06_PASS
pins: 1 CH1, 2 CH2, 3 GND, 4 CH3, 5 CH4, 8 GND

## TPD8S009
designator IC?  Manufacturer: TEXAS INSTRUMENTS  PartSymbol: TPD8S009DSMR  (hidden comment: TPD8S009)
8-Channel ESD Protection for DisplayPort and HDMI; Value: TPD8S009; PartNumber: TPD8S009
footprint SON-15
pins: 1 D0+, 2 GND, 3 D0-, 4 D1+, 5 GND, 6 D1-, 7 D2+, 8 GND, 9 D2-, 10 D3+, 11 GND, 12 D3-, 13 VCC, 15 VCC
1 alternate drawing of the same symbol

## TPS54561
designator IC?, comment TPS54561-Q1
IC REG BCK SPLIT RAIL ADJ 10WSON; Manufacturer: TEXAS INSTRUMENTS; PartNumber: TPS54561-Q1; Value: TPS54561-Q1; PartSymbol: TPS54561-Q1
footprint WSON-10_4x4
pins: 1 BOOT, 2 VDD, 3 EN, 4 SS/TR, 5 RT/CLK, 6 FB, 7 COMP, 8 GND, 9 SW, 10 PWRGD, 11 GND

## TPS62823
designator IC?, comment TPS62823DLCT
IC REG BUCK ADJ 1A 8VSON-HR; Manufacturer: TEXAS INSTRUMENTS; PartNumber: TPS62823; Value: TPS62823DLCT; PartSymbol: TPS62823DLCT; Class: IC
footprint TPS62823
pins: 1 EN, 2 FB, 3 AGND, 5 PGND, 6 SW, 7 VIN, 8 PG

## WE_7447798720
designator L?
Fixed Inductors WE-PDF 1064 7.2uH 7.9A 12.8mOhm; Manufacturer: WURTH ELEKTRONIK; PartNumber: WE_7447798720; Value: WE_7447798720; PartSymbol: 7447798720; Inductance: 7.2uH; RatedCurrent: 7.9A
footprint WE_7447798720
pins: 1, 2

## WE_7499111447
designator J?, comment Manufacturer: Wurth Elektronik  (hidden comment: WE_7499110124)
LAN-Transformer WE-RJ45LAN 10/100/1000 BaseT; PartNumber: WE_7499110124; Value: WE_7499110124; PartSymbol: WE_7499110124
footprint WE_7499110124
pins: 1 D0-, 2 D0+, 3 D1-, 4 D1+, 5 CTREF, 6 CTREF, 7 D2-, 8 D2+, 9 D3-, 10 D3+, 11, 12, 13, 14, S SHIELD
text: Y; G

## WE_632723300011
designator J?, comment 632723300011  Manufacturer: WURTH ELEKTRONIK
USB 3.1 Type C Receptacle Horizontal THR WR-COM; PartNumber: WE_632723300011; Value: 632723300011; PartSymbol: 632723300011
footprint WE_632723300011
pins: A1 GND, A2 SSTXp1, A3 SSTXn1, A4 VBUS, A5 CC1, A6 Dp1, A7 Dn1, A8 SBU1, A9 VBUS, A10 SSRXn2, A11 SSRXp2, A12 GND, B1 GND, B2 SSTXp2, B3 SSTXn2, B4 VBUS, B5 CC2, B6 Dp2, B7 Dn2, B8 SBU2, B9 VBUS, B10 SSRXn1, B11 SSRXp1, B12 GND, Shell Shield
text: USB 3.1 Type C

## WE_685119136923
designator J?, comment 685119136923  Manufacturer: WURTH ELEKTRONIK
CONN HDMI FEMALE R/A 19POS 2.6MM; PartNumber: WE_685119136923; Value: 685119136923; PartSymbol: WE_685119136923
footprint WE_685119136923
pins: 1 TMDS Data2 Shield, 2 TMDS Data2+, 3 TMDS Data2-, 4 TMDS Data1 Shield, 5 TMDS Data1+, 6 TMDS Data1-, 7 TMDS Data0 Shield, 8 TMDS Data0+, 9 TMDS Data0-, 10 TMDS Clock Shield, 11 TMDS Clock+, 12 TMDS Clock-, 13 DDC / CEC Ground / HEAC Shield, 14 CEC, 15 SCL, 16 SDA, 17 Utility / HEAC+, 18 +5V Power, 19 Hot Plug Detect / HEAC-, Shell Shield
text: Mini-HDMI Type C